# EAGLE library part 6-PIN (library footprints)
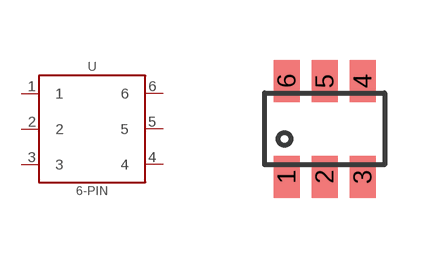
[diagram p0: symbol with the pads of SOT23-6; footprint SOT23-6]

Designator prefix -

## 6-PIN_SOT23  [SOT23-6]
1  1
2  2
3  3
4  4
5  5
6  6

## Footprint SOT23-6 (pad centres in mm)
smd 0.65 x 1.06: 1 -0.95,-1.2; 2 0,-1.2; 3 0.95,-1.2; 4 0.95,1.2; 5 0,1.2; 6 -0.95,1.2